# EAGLE library part FLAT-FLEX-CONNECTOR-VERT-24POS (library FlashPCB_Connectors)
FLAT-FLEX-CONNECTOR-VERT-24POS - Flat Flex Connector 24 position Vertical Technical Specifications: Number of Positions: 24 Contact: One Side Mount: Vertical
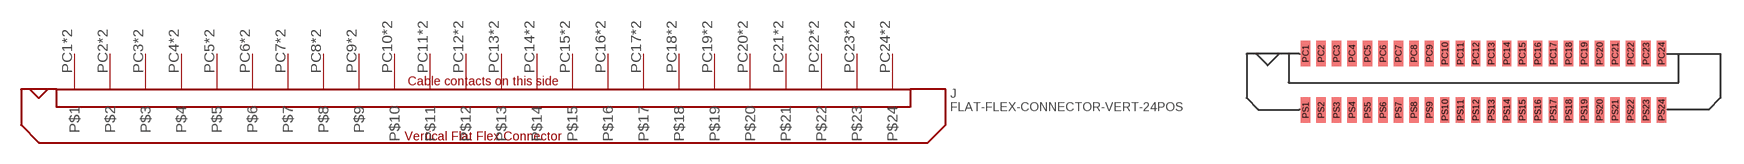
[diagram p132: symbol with the pads of FLAT-FLEX-CONNECTOR-MOLEX-52610-VERT-24POS; footprint FLAT-FLEX-CONNECTOR-MOLEX-52610-VERT-24POS]

Designator prefix J

## FLAT-FLEX-CONNECTOR-VERT-24POS1MM-PITCH  [FLAT-FLEX-CONNECTOR-MOLEX-52610-VERT-24POS]
PC1  P$1
PC2  P$2
PC3  P$3
PC4  P$4
PC5  P$5
PC6  P$6
PC7  P$7
PC8  P$8
PC9  P$9
PC10  P$10
PC11  P$11
PC12  P$12
PC13  P$13
PC14  P$14
PC15  P$15
PC16  P$16
PC17  P$17
PC18  P$18
PC19  P$19
PC20  P$20
PC21  P$21
PC22  P$22
PC23  P$23
PC24  P$24
PS1  P$1
PS2  P$2
PS3  P$3
PS4  P$4
PS5  P$5
PS6  P$6
PS7  P$7
PS8  P$8
PS9  P$9
PS10  P$10
PS11  P$11
PS12  P$12
PS13  P$13
PS14  P$14
PS15  P$15
PS16  P$16
PS17  P$17
PS18  P$18
PS19  P$19
PS20  P$20
PS21  P$21
PS22  P$22
PS23  P$23
PS24  P$24

## Footprint FLAT-FLEX-CONNECTOR-MOLEX-52610-VERT-24POS (pad centres in mm)
smd 0.6 x 1.65: PC1 -11.5,1.825; PC2 -10.5,1.825; PC3 -9.5,1.825; PC4 -8.5,1.825; PC5 -7.5,1.825; PC6 -6.5,1.825; PC7 -5.5,1.825; PC8 -4.5,1.825; PC9 -3.5,1.825; PC10 -2.5,1.825; PC11 -1.5,1.825; PC12 -0.5,1.825; PC13 0.5,1.825; PC14 1.5,1.825; PC15 2.5,1.825; PC16 3.5,1.825; PC17 4.5,1.825; PC18 5.5,1.825; PC19 6.5,1.825; PC20 7.5,1.825; PC21 8.5,1.825; PC22 9.5,1.825; PC23 10.5,1.825; PC24 11.5,1.825; PS1 -11.5,-1.825; PS2 -10.5,-1.825; PS3 -9.5,-1.825; PS4 -8.5,-1.825; PS5 -7.5,-1.825; PS6 -6.5,-1.825; PS7 -5.5,-1.825; PS8 -4.5,-1.825; PS9 -3.5,-1.825; PS10 -2.5,-1.825; PS11 -1.5,-1.825; PS12 -0.5,-1.825; PS13 0.5,-1.825; PS14 1.5,-1.825; PS15 2.5,-1.825; PS16 3.5,-1.825; PS17 4.5,-1.825; PS18 5.5,-1.825; PS19 6.5,-1.825; PS20 7.5,-1.825; PS21 8.5,-1.825; PS22 9.5,-1.825; PS23 10.5,-1.825; PS24 11.5,-1.825